# Altium integrated library Analog Devices Data Converters Analog-to-Digital Converters.IntLib: 2400 symbols (part 150 of 338)
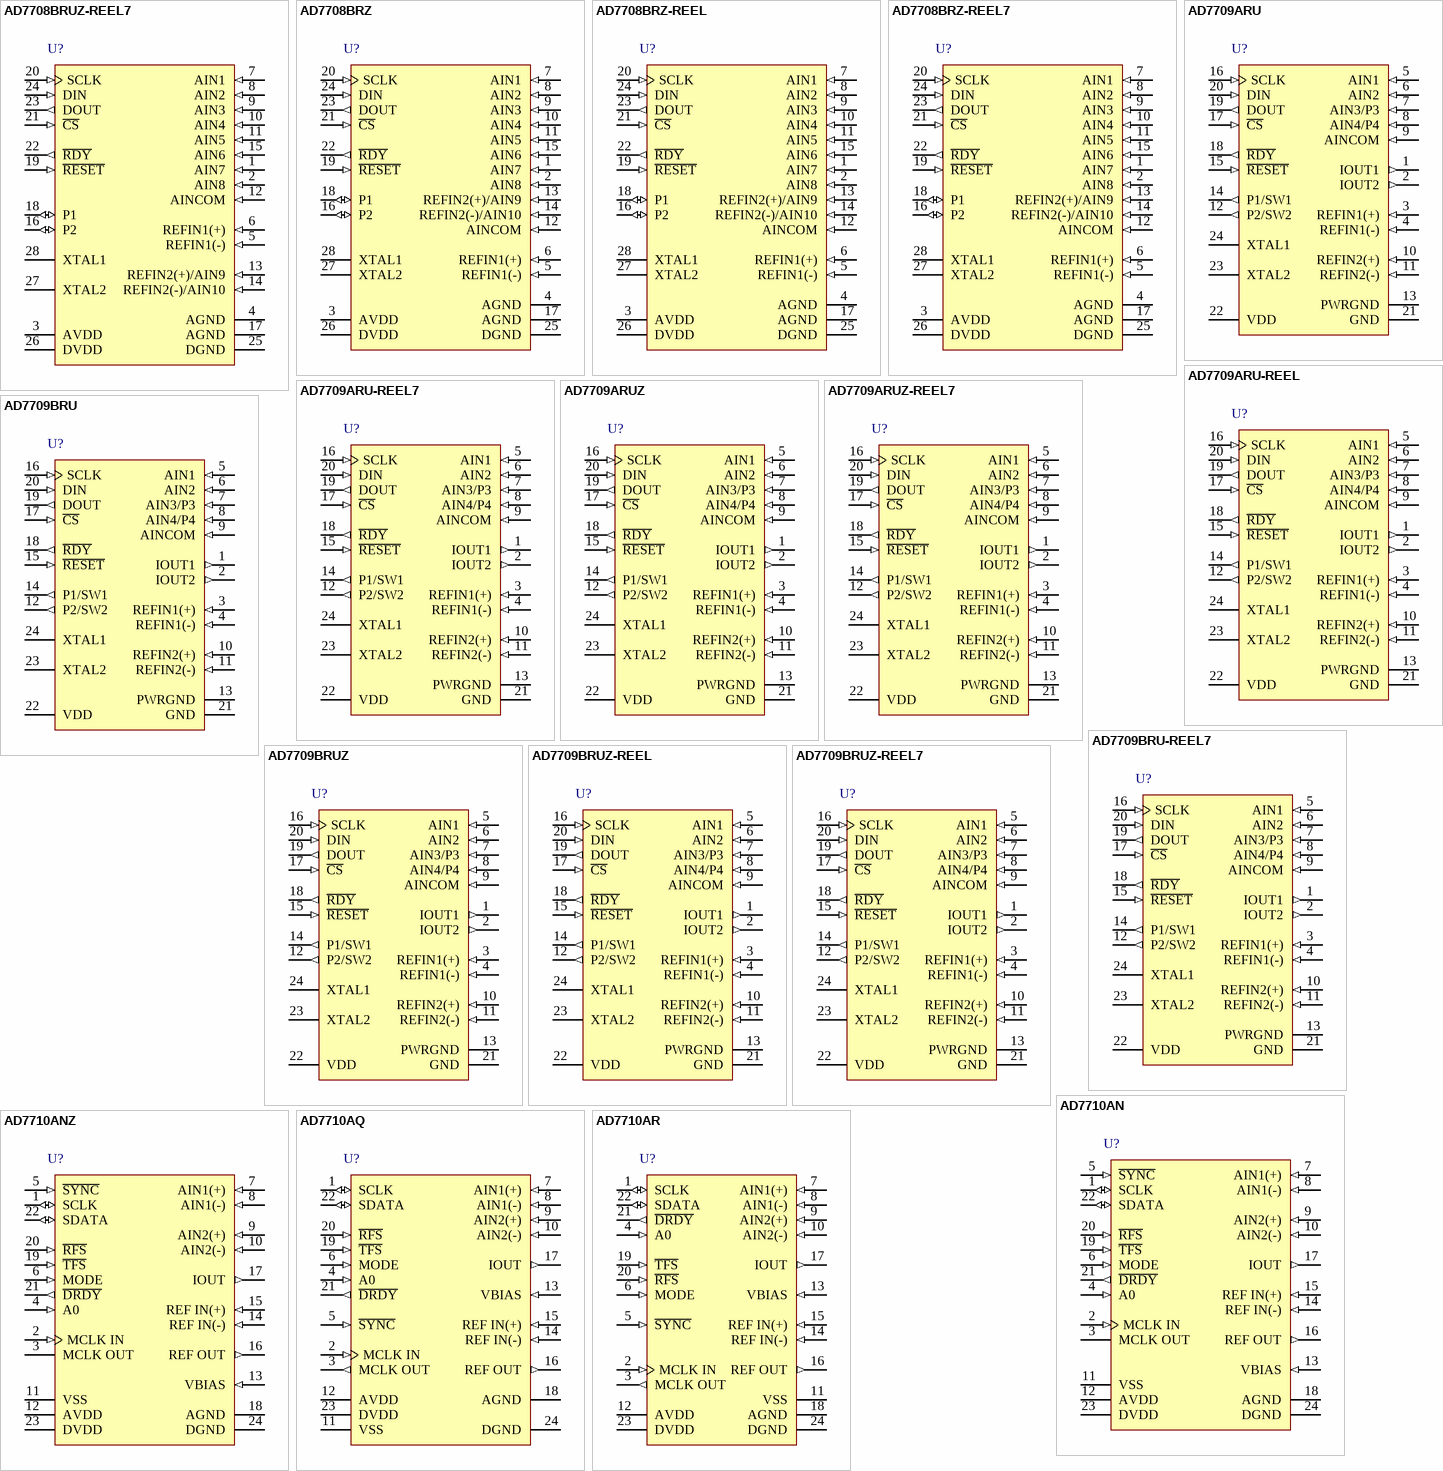
[diagram p340: symbols AD7708BRUZ-REEL7 to AD7710AR]

## AD7709ARUZ-REEL7
designator U?
Quad 16-Bit Sigma-Delta Analog-to-Digital Converter with Serial, SPI Interface, 105SPS, -40 to +85 degC, RU-24, Pb-Free, Reel; Part Number: AD7709; Manufacturer: Analog Devices; Resolution (Bits): 16; Channels: 4; Throughput Rate (SPS): 105; Interface: Ser, SPI; DatasheetVersion: Rev.A; PackageVersion: 2002; PackageReference: RU-24; PackageDescription: 24-Lead Thin Shrink Small Outline Package [TSSOP]; RoHS: Y; Packing: Reel; Mounting Technology: Surface Mount; Code_JEDEC: MO-153-AD; ComponentLink1Description: Manufacturer URL; ComponentLink1URL: http://www.analog.com/en/index.html; ComponentLink2Description: Datasheet; ComponentLink2URL: http://www.analog.com/static/imported-files/data_sheets/AD7709.pdf; ComponentLink3Description: Package Specification; ComponentLink3URL: http://www.analog.com/static/imported-files/packages/380523655245964505593671154107510036154RU24.pdf; ComponentLink4Description: Product URL; ComponentLink4URL: http://www.analog.com/en/analog-to-digital-converters/ad-converters/ad7709/products/product.html
footprint RU-24_N (TSOP, 24-Leads, Body 7.8x4.4mm, Pitch 0.65mm, IPC Medium Density)
footprint RU-24_L (TSOP, 24-Leads, Body 7.8x4.4mm, Pitch 0.65mm, IPC High Density)
footprint RU-24_M (TSOP, 24-Leads, Body 7.8x4.4mm, Pitch 0.65mm, IPC Low Density)
pins: 1 IOUT1 (out) "Output for Internal Excitation Current Source. Either current source IEXC1, IEXC2, IEXC3, or a combination of the current sources, can be switched to this output.", 2 IOUT2 (out) "Output for Internal Excitation Current Source. Either current source IEXC1, IEXC2, IEXC3, or a combination of the current sources, can be switched to this output.", 3 REFIN1(+) (in) "Positive Reference Input. REFIN1(+) can lie anywhere between VDD and GND + 1 V. The nominal reference voltage (REFIN1(+) - REFIN1(-)) is 2.5 V, but the part is functional with a reference range from 1 V to VDD.", 4 REFIN1(-) (in) "Negative Reference Input. This reference input can lie anywhere between GND and VDD - 1 V.", 5 AIN1 (in) "Analog Input. Programmable gain input that can be used as a pseudo-differential input when used with AINCOM or as the positive input of a fully differential input pair when used with AIN2.", 6 AIN2 (in) "Analog Input. Programmable gain input that can be used as a pseudo-differential input when used with AINCOM or as the negative input of a fully differential input pair when used with AIN1.", 7 AIN3/P3 (in) "Analog Input/Digital Port Bit. Programmable gain input that can be used as a pseudo-differential input when used with AINCOM or as the positive input of a fully differential input pair when used with AIN4. This pin can also (See Datasheet)", 8 AIN4/P4 (in) "Analog Input/Digital Port Bit. Programmable gain input that can be used as a pseudo-differential input when used with AINCOM or as the negative input of a fully-differential input pair when used with AIN3. This pin can also (See Datasheet)", 9 AINCOM (in) "All analog inputs are referenced to this input when configured in pseudo-differential input mode.", 10 REFIN2(+) (in) "Positive Reference Input. REFIN2(+) can lie anywhere between VDD and GND + 1 V. The nominal reference voltage (REFIN2(+) - REFIN2(-)) is 2.5 V, but the part is functional with a reference range from 1 V to VDD.", 11 REFIN2(-) (in) "Negative Reference Input. This reference input can lie anywhere between GND and VDD - 1 V.", 12 P2/SW2 (out) "Dual-Purpose Pin. It can act as a general-purpose output (P2) bit or as a low-side power switch (SW2)  to PWRGND.", 13 PWRGND (power) "Ground Point for the Low-Side Power Switches SW2 and SW1. PWRGND must be tied to GND.", 14 P1/SW1 (out) "Dual-Purpose Pin. It can act as a general-purpose output (P1) bit or as a low-side power switch (SW1) to PWRGND.", 15 ~{RESET} (in) "Digital Input Used to Reset the ADC to Its Power-On-Reset Status. This pin has a weak pull-up internally to VDD.", 16 SCLK (in) "Serial Clock Input for Data Transfers to and from the ADC. The SCLK has a Schmitt-triggered input making the interface suitable for opto-isolated applications. The serial clock can be continuous with all data transmitted in (See Datasheet)", 17 ~{CS} (in) "Chip Select Input. This is an active low logic input used to select the AD7709. C\S\ can be used to select the AD7709 in systems with more than one device on the serial bus or as a frame synchronization signal in (See Datasheet)", 18 ~{RDY} (out) "R\D\Y\ is a Logic Low Status Output from the AD7709. R\D\Y\ is low if the ADC has valid data in its data register. This output returns high on completion of a read operation from the data register. If data is not read, (See Datasheet)", 19 DOUT (out) "Serial Data Output Accessing the Output Shift Register of the AD7709. The output shift register can contain data from any of the on-chip data or control registers.", 20 DIN (in) "Serial Data Input Accessing the Input Shift Register on the AD7709. Data in this shift register is transferred to the control registers within the ADC, the selection bits of the communications register selecting which (See Datasheet)", 21 GND (power) "Ground Reference Point for the AD7709", 22 VDD (power) "Supply Voltage, 3 V or 5 V Nominal", 23 XTAL2 "Output from the 32.768 kHz Crystal Oscillator Inverter", 24 XTAL1 "Input to the 32.768 kHz Crystal Oscillator Inverter"